# EAGLE library part TC962EPA (library eagleLib v2)
IC, CHARGE PUMP
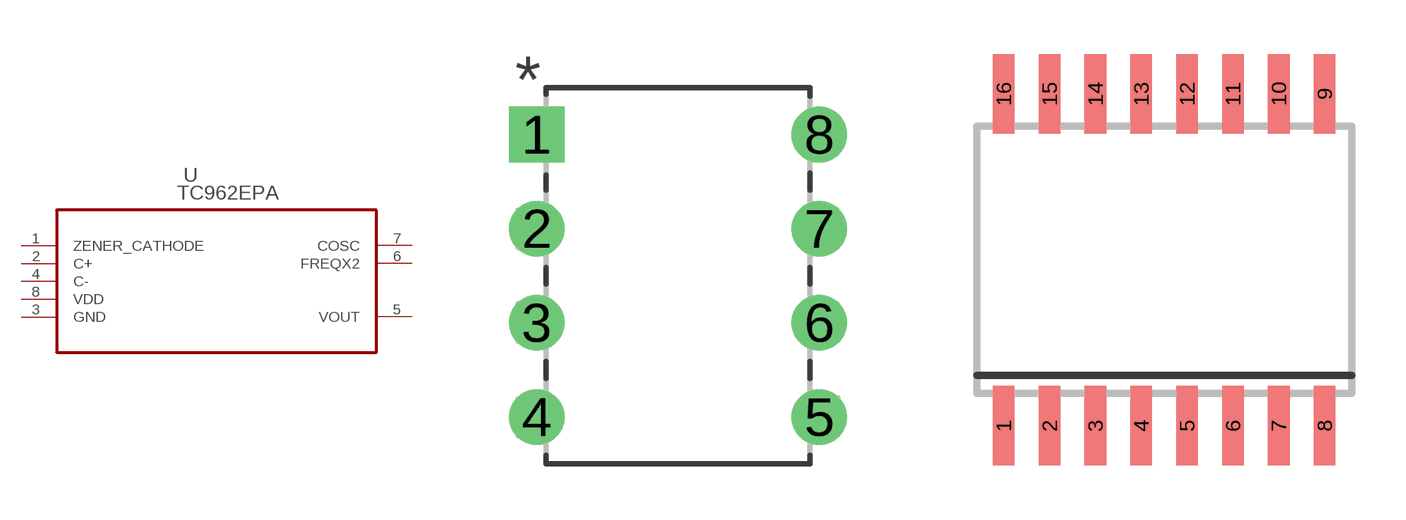
[diagram p72: symbol with the pads of DIP254P762X508-8; footprints DIP254P762X508-8, SO-16DW]

Designator prefix U

## TC962EPA-D (MPN: TC962EPA; OC_FARNELL: 1467789; OC_NEWARK: 92C6659; PACKAGE: PDIP-8; SUPPLIER: MICROCHIP)  [DIP254P762X508-8]
1  ZENER_CATHODE  in
2  C+  in
3  GND  pas
4  C-  in
5  VOUT  out
6  FREQX2  in
7  COSC  in
8  VDD  pwr

## TC962EPA (EAGLEUP: SO16W)  [SO-16DW]
1  ZENER_CATHODE  in
3  C+  in
5  GND  pas
7  C-  in
10  VOUT  out
12  FREQX2  in
14  COSC  in
16  VDD  pwr

## Footprint DIP254P762X508-8 (pad centres in mm)
drill 0.991 square: 1 -7.62,7.62
drill 0.991: 2 -7.62,5.08; 3 -7.62,2.54; 4 -7.62,0; 5 0,0; 6 0,2.54; 7 0,5.08; 8 0,7.62

## Footprint SO-16DW (pad centres in mm)
DW (RPDSO-G16) Source: http://focus.ti.com/lit/ds/symlink/iso1176.pdf
smd 0.6 x 2.2: 1 -4.445,-4.6; 2 -3.175,-4.6; 3 -1.905,-4.6; 4 -0.635,-4.6; 5 0.635,-4.6; 6 1.905,-4.6; 7 3.175,-4.6; 8 4.445,-4.6; 9 4.445,4.6; 10 3.175,4.6; 11 1.905,4.6; 12 0.635,4.6; 13 -0.635,4.6; 14 -1.905,4.6; 15 -3.175,4.6; 16 -4.445,4.6